# Altium footprint library PCB - LEADLESS - QFN - SKYWORKS QFN-64 9X9 SI5391.PcbLib: 1 footprints
Each footprint in its own frame and in the unit in brackets; x right, y up, seen from the top. Pads: shape width x height; smd on the part's side, far side on the other; paste and mask are expansions set on the pad; w line width, h text height; cw(c..) or ccw(c..) is an arc to the next point about the centre after c.
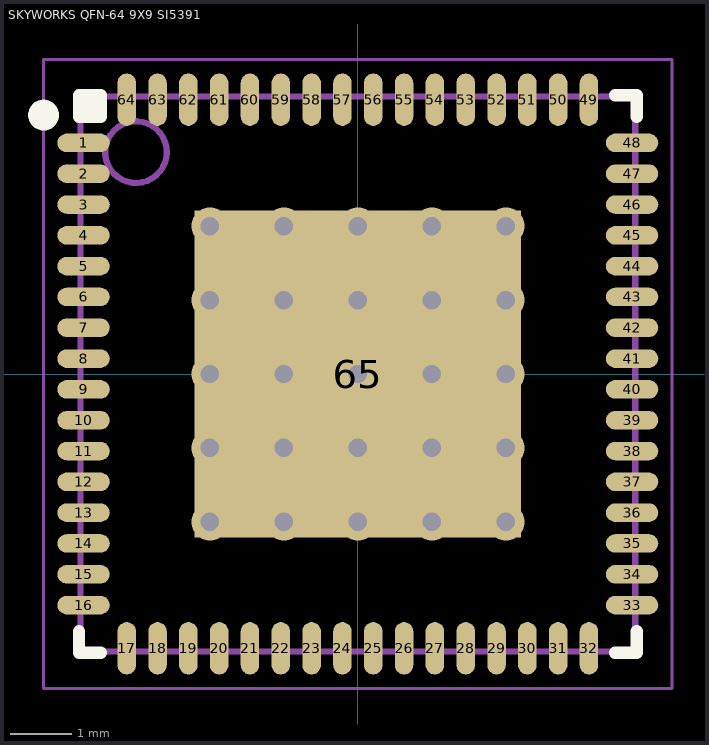
[diagram p0: the footprint, top view; thin cyan lines are the x and y axes]

## SKYWORKS QFN-64 9X9 SI5391 [mm] "QFN, 64-Leads, Body 9.00x9.00mm, Pitch 0.50mm, Thermal Pad 5.30x5.30mm, IPC Medium Density"
height 0.9
pads (65):
  oval 0.85x0.3 smd: 1(-4.45,3.75) 2(-4.45,3.25) 3(-4.45,2.75) 4(-4.45,2.25) 5(-4.45,1.75) 6(-4.45,1.25) 7(-4.45,0.75) 8(-4.45,0.25) 9(-4.45,-0.25) 10(-4.45,-0.75) 11(-4.45,-1.25) 12(-4.45,-1.75) 13(-4.45,-2.25) 14(-4.45,-2.75) 15(-4.45,-3.25) 16(-4.45,-3.75) 33(4.45,-3.75) 34(4.45,-3.25) 35(4.45,-2.75) 36(4.45,-2.25) 37(4.45,-1.75) 38(4.45,-1.25) 39(4.45,-0.75) 40(4.45,-0.25) 41(4.45,0.25) 42(4.45,0.75) 43(4.45,1.25) 44(4.45,1.75) 45(4.45,2.25) 46(4.45,2.75) 47(4.45,3.25) 48(4.45,3.75)
  oval 0.3x0.85 smd: 17(-3.75,-4.45) 18(-3.25,-4.45) 19(-2.75,-4.45) 20(-2.25,-4.45) 21(-1.75,-4.45) 22(-1.25,-4.45) 23(-0.75,-4.45) 24(-0.25,-4.45) 25(0.25,-4.45) 26(0.75,-4.45) 27(1.25,-4.45) 28(1.75,-4.45) 29(2.25,-4.45) 30(2.75,-4.45) 31(3.25,-4.45) 32(3.75,-4.45) 49(3.75,4.45) 50(3.25,4.45) 51(2.75,4.45) 52(2.25,4.45) 53(1.75,4.45) 54(1.25,4.45) 55(0.75,4.45) 56(0.25,4.45) 57(-0.25,4.45) 58(-0.75,4.45) 59(-1.25,4.45) 60(-1.75,4.45) 61(-2.25,4.45) 62(-2.75,4.45) 63(-3.25,4.45) 64(-3.75,4.45)
  rect 5.3x5.3 smd paste-2539.97 mask+0.102: 65(0,0)
via 2.4,-2.4 diameter 0.6 hole 0.3
via 1.2,-2.4 diameter 0.6 hole 0.3
via 0,-2.4 diameter 0.6 hole 0.3
via -1.2,-2.4 diameter 0.6 hole 0.3
via -2.4,-2.4 diameter 0.6 hole 0.3
via 2.4,-1.2 diameter 0.6 hole 0.3
via 1.2,-1.2 diameter 0.6 hole 0.3
via 0,-1.2 diameter 0.6 hole 0.3
via -1.2,-1.2 diameter 0.6 hole 0.3
via -2.4,-1.2 diameter 0.6 hole 0.3
via 2.4,0 diameter 0.6 hole 0.3
via 1.2,0 diameter 0.6 hole 0.3
via 0,0 diameter 0.6 hole 0.3
via -1.2,0 diameter 0.6 hole 0.3
via -2.4,0 diameter 0.6 hole 0.3
via 2.4,1.2 diameter 0.6 hole 0.3
via 1.2,1.2 diameter 0.6 hole 0.3
via 0,1.2 diameter 0.6 hole 0.3
via -1.2,1.2 diameter 0.6 hole 0.3
via -2.4,1.2 diameter 0.6 hole 0.3
via 2.4,2.4 diameter 0.6 hole 0.3
via 1.2,2.4 diameter 0.6 hole 0.3
via 0,2.4 diameter 0.6 hole 0.3
via -1.2,2.4 diameter 0.6 hole 0.3
via -2.4,2.4 diameter 0.6 hole 0.3
Top Overlay:
  circle w0.25: c-5.1,4.2 r0.125
  rectangle: -4.523,4.173 -4.173,4.523
  lines w0.2: -4.523,-4.173 -4.523,-4.523 -4.173,-4.523 ; 4.173,-4.523 4.523,-4.523 4.523,-4.173 ; 4.173,4.523 4.523,4.523 4.523,4.173 ; -4.523,4.173 -4.173,4.173 -4.173,4.523 -4.523,4.523 -4.523,4.173
Top Paste:
  drawing of 16 lines, arcs and shapes, not listed
Top Solder:
  drawing of 16 lines, arcs and shapes, not listed
Mechanical 13:
  circle w0.1: c-3.6,3.6 r0.5
  lines w0.1: -4.5,-4.5 4.5,-4.5 4.5,4.5 -4.5,4.5 -4.5,-4.5
Mechanical 15:
  lines w0.05: -5.1,-5.1 5.1,-5.1 5.1,5.1 -5.1,5.1 -5.1,-5.1
  lines w0.1: -0.5,0 0.5,0 ; 0,-0.5 0,0.5
3D body "Skyworks QFN-64 9x9.step": height 1.1, standoff 0, extent -4.52,-4.52 4.52,4.52